# Altium footprint library hc12_433mhz.PCBLIB: 1 footprints
Each footprint in its own frame and in the unit in brackets; x right, y up, seen from the top. Pads: shape width x height; smd on the part's side, far side on the other; paste and mask are expansions set on the pad; w line width, h text height; cw(c..) or ccw(c..) is an arc to the next point about the centre after c.
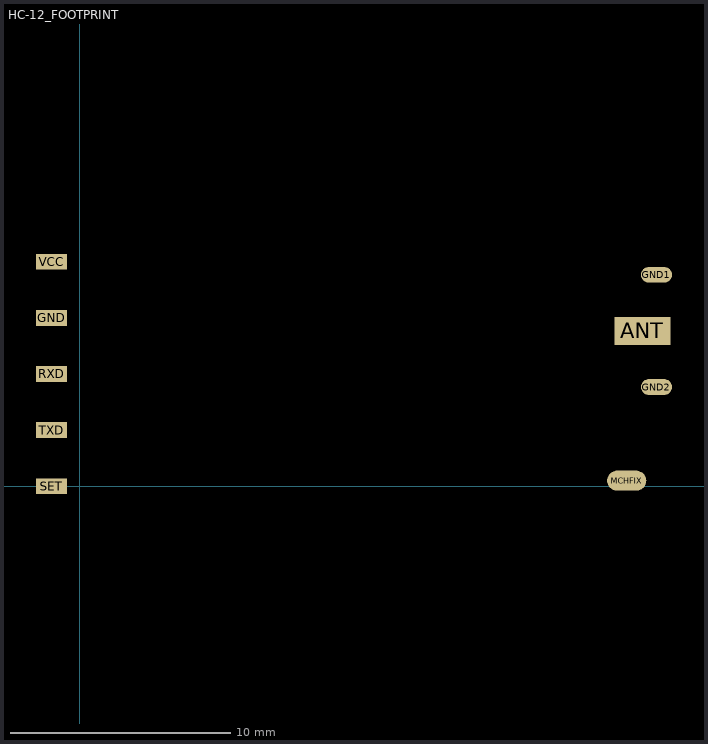
[diagram p0: the footprint, top view; thin cyan lines are the x and y axes]

## HC-12_FOOTPRINT [mil]
pads (9):
  rect 100x50 smd: ANT(1003.54,276.77)
  rect 56x28 smd: GND(-50,300) RXD(-50,200) SET(-50,0) TXD(-50,100) VCC(-50,400)
  rrect100% 56x28 smd: GND1(1028.74,376.77) GND2(1028.74,176.77)
  rrect100% 70x36 smd: MCHFIX(975.59,9.84)